# Altium schematic symbol library MMT_OtherComponents.SchLib: 39 symbols
Pins are listed as number, name and electrical type; pins without a type are passive.

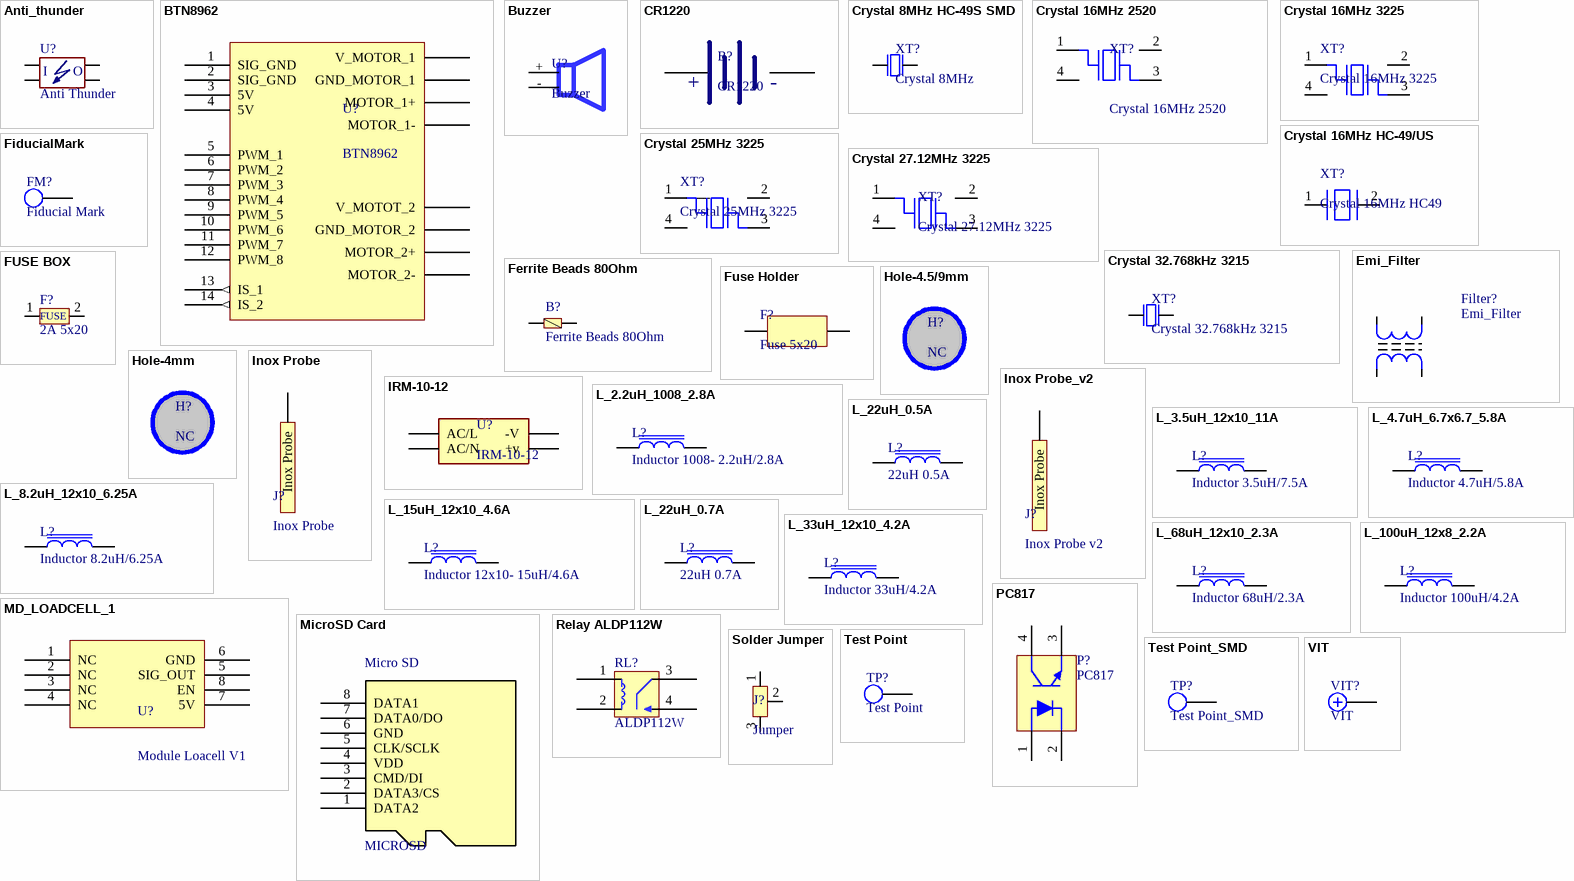
[diagram p0: symbols Anti_thunder to VIT]

## Anti_thunder
designator U?, comment Anti Thunder
Protecting the board with thunder; Manufacturer: Sullins Connector Solutions; Ex Price: 1.34; Vn Price: 4000; Voltage/Wattage: 250V/3A; Ex Supplier: https://www.digikey.com/product-detail/en/sullins-connector-solutions/PPTC112LFBN-RC/S7079-ND/810217; VN Supplier: http://tme.vn/Product.aspx?id=517#page=pro_info
footprint Anti_thunder
pins: 1, 2, 3, 4
text: I; O

## BTN8962
designator U?
Dual hafl-bridge motor driver; Manufacturer: MimosaTEK
footprint BTN8962TA_V1.2 (14 pins, straight, gold plating)
pins: 1 SIG_GND, 2 SIG_GND, 3 5V, 4 5V, 5 PWM_1, 6 PWM_2, 7 PWM_3, 8 PWM_4, 9 PWM_5, 10 PWM_6, 11 PWM_7, 12 PWM_8, 13 IS_1 (out), 14 IS_2 (out), ?1 V_MOTOR_1, ?2 GND_MOTOR_1, ?3 MOTOR_1+, ?4 MOTOR_1-, ?5 V_MOTOT_2, ?6 GND_MOTOR_2, ?7 MOTOR_2+, ?8 MOTOR_2-

## Buzzer
designator U?
DIP Buzzer 12x9mm; Manufaceturer: OEM; VN Price: 3000; VN Supplier: https://thegioiic.com/products/1209-dip-buzzer-12x9mm
footprint BUZZER D12
pins: 1 +, 2 -

## CR1220
designator B?
Coin Cell Battery Holders EZ BDWR, SMT COIN CELL HOLDER CR1220; Manufacturer: Harwin; Part Number: S8411-45R; Ex Price: 0.678; VN Price: 1700; Ex Supplier: https://www.mouser.vn/ProductDetail/Harwin/S8411-45R?qs=sGAEpiMZZMtT9MhkajLHrqC860xW%2FXMDB4Gztb%252BQWqM%3D; VN Supplier: https://thegioiic.com/products/cr1220-de-pin-smd; Package: Coin 12mm
footprint CR1220
pins: 1 VCC, 2
text: +; -

## Crystal 8MHz HC-49S SMD
designator XT?, comment Crystal 8MHz
8 MHz HC-49S SMD Crystal; Manufacturer: Citizen FineDevice; Part Number: HCM498000000ABJT; Ex Price: 0.66; VN Price: 4000; Tolerance: 30PPM; Ex Supplier: https://www.mouser.vn/ProductDetail/Citizen-FineDevice/HCM498000000ABJT?qs=sGAEpiMZZMsBj6bBr9Q9abMK2mGYOCsJj3%252BGXLAdcPnWMHmt%252BBng3w%3D%3D; VN Supplier: http://tme.vn/Product.aspx?id=1754#page=pro_info; Package: HC-49/US; Value: 8MHz
footprint CRYSTAL_HC49-US-SM (SMD Crystal HC49/US-SM package)
pins: 1 3, 2 3

## Crystal 16MHz 2520
designator XT?
Crystals 16MHz 25ppm 12pF -40C +85C; Manufacturer: ECS; Part Number: ECS-160-12-36-AGN-TR; Ex Price: 0.55; VN Price: 10000; Package: 2.5x2mm; Ex Supplier: https://www.mouser.vn/ProductDetail/ECS/ECS-160-12-36-AGN-TR?qs=sGAEpiMZZMsBj6bBr9Q9abMK2mGYOCsJDrVgMadX0Nn6crzDq4Cd%252Bg%3D%3D; VN Supplier: http://tme.vn/Product.aspx?id=1114
footprint CRYSTAL-2.5x2-4
pins: 1, 2, 3, 4

## Crystal 16MHz 3225
designator XT?
Crystals 16MHz 12pF 20ppm ESR 70 -40C +125C; Manufacturer: ABRACON; Part Number: ABM8AIG-16.000MHz-12-2Z-T; Ex Price: 0.667; VN Price: 7000; Ex Supplier: https://www.mouser.vn/ProductDetail/ABRACON/ABM8AIG-16000MHz-12-2Z-T?qs=sGAEpiMZZMsBj6bBr9Q9abMK2mGYOCsJj5I193fdriQ%252BZgMrBBZTDg%3D%3D; VN Supplier: http://tme.vn/Product.aspx?id=1875#page=pro_info; Package: 32x25(mm); Value: 16MHz; Tolerance: 20PPM
footprint Crystal-3.2x2.5 (DSX321G)
pins: 1, 2, 3, 4

## Crystal 16MHz HC-49/US
designator XT?, comment Crystal 16MHz HC49
Crystals 16.000MHz 30ppm -20C +70C; Manufacturer: ABRACON; Part Number: ABLS-16.000MHZ-B4-T; Ex Price: 0.28; VN Price: 1400; Ex Supplier: https://www.mouser.vn/ProductDetail/ABRACON/ABLS-16000MHZ-B4-T?qs=sGAEpiMZZMsBj6bBr9Q9afotFnKtdEDA7ZIrgzeEC8Q%3D; VN Supplier: https://thegioiic.com/products/thach-anh-16mhz-crystal-hc49-smd; Package: HC-49/US; Value: 16MHz; Tolerance: 30PPM
footprint HC-49/US
pins: 1, 2

## Crystal 25MHz 3225
designator XT?
Crystals 25MHz 10pF 30ppm -10C +60C; Manufacturer: ABRACON; Part Number: ABM8G-25.000MHZ-4Y-T3; Ex Price: 0.54; VN Price: 2900; Ex Supplier: https://www.mouser.vn/ProductDetail/ABRACON/ABM8G-25000MHZ-4Y-T3?qs=sGAEpiMZZMsBj6bBr9Q9aX7UzXNQttwpdjHAq7%2FeiO4%3D; VN Supplier: https://thegioiic.com/products/thach-anh-25mhz-3225-4pin-crystal; Package: 32x25(mm); Value: 25MHz; Tolerance: 30PPM
footprint Crystal-3.2x2.5 (DSX321G)
pins: 1, 2, 3, 4

## Crystal 27.12MHz 3225
designator XT?
Crystals 27.12MHz 12pF 30ppm -10C +60C; Manufacturer: ECS; Part Number: ECS-271.2-12-33-AGN-TR; Ex Price: 0.54; VN Price: 3000; Tolerance: 25PPM; Ex Supplier: https://www.mouser.vn/ProductDetail/ECS/ECS-2712-12-33-AGN-TR?qs=wd5RIQLrsJh1Qfl3vC1ajw%3D%3D; VN Supplier: https://www.thegioiic.com/products/thach-anh-27-12mhz-3225-4pin-crystal; Package: 32x25(mm); Value: 27.12MHz
footprint Crystal-3.2x2.5 (DSX321G)
pins: 1, 2, 3, 4

## Crystal 32.768kHz 3215
designator XT?
Crystals 32.768KHz 12.5pf 3.2 x 1.5 x 0.9mm; Manufacturer: ABRACON; Part Number: ABS07-32.768KHZ-T; Ex Price: 0.76; VN Price: 4500; Tolerance: 20PPM; Ex Supplier: https://www.mouser.vn/ProductDetail/ABRACON/ABS07-32768KHZ-T?qs=sGAEpiMZZMsBj6bBr9Q9aU6frLWTv08pCKgvHujfbIs%3D; VN Supplier: https://thegioiic.com/products/thach-anh-32-768khz-c3215; Package: 3215(mm); Value: 32.768kHz
footprint CRYSTAL-3.2x1.5 (3.2mm * 1.5mm)
pins: 1 3, 2 3

## Emi_Filter
designator Filter?
VN Price: 5500; Value: 10mH; VN Supplier: https://banlinhkien.vn/goods-3415-cuon-loc-10mh-uu9-8.html
footprint EMI_filter
pins: 1, 2, 3, 4

## Ferrite Beads 80Ohm
designator B?
Ferrite Beads 80 Ohms 1000mA -55C +125C; Manufacturer: ABRACON; Part Number: ACML-0805-800-T; Ex Price: 0.015; VN Price: 450; Tolerance: 25%; Ex Supplier: https://www.mouser.vn/ProductDetail/ABRACON/ACML-0805-800-T?qs=qw2lGDycG5sX5sSNlJgnVQ%3D%3D; VN Supplier: http://tme.vn/Product.aspx?id=1708#page=pro_info; Package: 0805 (2012mm); Value: 80 Ohm; Voltage/Wattage: 1000mA
footprint FERRITE BEAD
pins: 1, 2

## FiducialMark
designator FM?, comment Fiducial Mark
Part Number: NC; Value: NC; Package: NC
footprint Fiducial mark
pins: 1

## FUSE BOX
designator F?, comment 2A 5x20
footprint CYLINDER_FUSE
footprint FUSE_HOLDER
footprint FUSE BOX
footprint NTC10D (Footprint not found)
pins: 1, 2
text: FUSE

## Fuse Holder
designator F?, comment Fuse 5x20
Fuse Clips Panel Mount; Manufacturer: Bussmann / Eaton; Part Number: BK/HTC-210M; Ex Price: 1.12; VN Price: 400; Ex Supplier: https://www.mouser.vn/ProductDetail/Bussmann-Eaton/BK-HTC-210M?qs=sGAEpiMZZMuxTAA0eeO5GyZDnZcVJh2jmwDKjwFmrv4%3D; VN Supplier: https://thegioiic.com/products/5x20-dip-de-cau-chi; Package: 5 mm x 20 mm
footprint FUSE_HOLDER
pins: 1, 2

## Hole-4.5/9mm
designator H?, comment NC
Hole 4.5/9mm
footprint Hole-4.5/9mm
pins: 1 hidden

## Hole-4mm
designator H?, comment NC
Hole 4mm
footprint Hole-4mm
pins: 1 hidden

## Inox Probe
designator J?
NC; Value: NC
footprint Inox Probe
pins: 0 Inox Probe

## Inox Probe_v2
designator J?, comment Inox Probe v2
NC; Value: NC
footprint Inox Probe v2
pins: 0 Inox Probe

## IRM-10-12
designator U?
AC/DC Power Modules 12V 0.85A 10.2W 85-264Vin Encap PS; Manufacturer: MEAN WELL; Ex Price: 7.5; VN Price: 195000; Voltage/Wattage: 12V/0.85A; Part Number: IRM-10-12; Ex Supplier: https://www.mouser.vn/ProductDetail/MEAN-WELL/IRM-10-12?qs=%2Fha2pyFaduinEh%2FsL8Dm3dC%2F6llusOicbYSZP6avck9m518FKrUQ9Q%3D%3D; VN Supplier: https://banlinhkien.vn/goods-10595-nguon-ac-dc-12v0-85a-irm-10-12.html
footprint IRM-10-x
pins: 1 AC/L, 2 AC/N, 3 +v, 4 -V

## L_2.2uH_1008_2.8A
designator L?, comment Inductor 1008- 2.2uH/2.8A
Fixed Inductors 1008 2.2uH 20% 2.8A RDC=0.084ohms; Manufacturer: Murata Electronics; Part Number: DFE252012PD-2R2M=P2; Ex Price: 0.73; Value: Inductor 1008- 2.2uH/2.8A; Ex Supplier: https://www.mouser.vn/ProductDetail/Murata-Electronics/DFE252012PD-2R2M%3dP2?qs=sGAEpiMZZMsg%252By3WlYCkU5FHiQf6D01SaYOe7iY5uFo%3D; Package: 1008; Voltage/Wattage: 2.8A; Tolerance: 20%
footprint INDUCTOR-1008
pins: 1, 2

## L_3.5uH_12x10_11A
designator L?, comment Inductor 3.5uH/7.5A
Fixed Inductors WE-PD 1210 3.5uH 11A .009Ohm; Manufacturer: Wurth Electronics; Part Number: 7447709680; Value: Inductor 12x10- 3.5uH/11A; VN Price: 2500; Voltage/Wattage: 2.3; Tolerance: 20%; Ex Price: 2.41; Ex Supplier: https://www.mouser.vn/ProductDetail/Wurth-Elektronik/7447709003?qs=sGAEpiMZZMsg%252By3WlYCkU2ZZAkgqljbF016AQIzgltY%3D; VN Supplier: https://thegioiic.com/products/cuon-cam-3-5uh-rh127-smd-12x12x7; Package: 12x10mm
footprint INDUC_12x10
pins: 1, 2

## L_4.7uH_6.7x6.7_5.8A
designator L?, comment Inductor 4.7uH/5.8A
Fixed Inductors 4.7uH 20% 0.027ohms 5.8A AEC-Q200; Manufacturer: TAKAMISAWA; Part Number: VLS6045EX-4R7M-H; VN Price: 6000; Ex Price: 0.63; Value: Inductor 4.7uH/5.8A; Ex Supplier: https://www.mouser.vn/ProductDetail/TDK/VLS6045EX-4R7M-H?qs=sGAEpiMZZMsg%252By3WlYCkU1c2wN3ttFq7%252Bre%252B3Va84qM%3D; VN Supplier: http://tme.vn/Product.aspx?id=1326#page=pro_info; Package: 6.0x6.3x4.5; Tolerance: 20%
footprint INDUCTOR 6045
pins: 1, 2

## L_8.2uH_12x10_6.25A
designator L?, comment Inductor 8.2uH/6.25A
Fixed Inductors WE-PD 1260 8.2uH 6.25A .02Ohm; Manufacturer: Wurth Electronics; Part Number: 744771008; VN Price: 2600; Tolerance: 20%; Ex Price: 2.12; Ex Supplier: https://www.mouser.vn/ProductDetail/Wurth-Elektronik/744771008?qs=E%2F%2FhvbtCqpMBmCD5Rj69rg%3D%3D; VN Supplier: https://www.thegioiic.com/products/cuon-cam-dan-smd-1280-8r2-8-2uh-8a; Package: 12x10mm; Voltage/Wattage: 6.25A
footprint INDUC_12x10
pins: 1, 2

## L_15uH_12x10_4.6A
designator L?, comment Inductor 12x10- 15uH/4.6A
Fixed Inductors WE-PDA 1210 15uH 20% 4.6A 36mOhm; Manufacturer: Wurth Electronics; Part Number: 7847709150; VN Price: 8000; Ex Price: 2.57; Value: Inductor 12x10- 15uH/4.6A; Ex Supplier: https://www.mouser.vn/ProductDetail/Wurth-Electronics/7847709150?qs=sGAEpiMZZMsg%252By3WlYCkUy0Se8nYOmwutlwbLtW9dpI%3D; VN Supplier: http://tme.vn/Product.aspx?id=1220#page=pro_info; Package: 1210; Voltage/Wattage: 4.6A; Tolerance: 20%
footprint INDUC_12x10
pins: 1, 2

## L_22uH_0.5A
designator L?, comment 22uH 0.5A
Fixed Inductors 22uH 0.5A 3.5x3x2.1mm; Manufacturer: Wurth Elektronik; Part Number: 7447732122; VN Price: 1300; Tolerance: 20%; Ex Price: 0.98; Ex Supplier: https://www.mouser.vn/ProductDetail/Wurth-Elektronik/7447732122?qs=sGAEpiMZZMsg%252By3WlYCkU0cVvN3PZ71qptMiyWXxPPI%3D; VN Supplier: https://thegioiic.com/products/cuon-cam-22uh-cd32-smd-3-5x3-1x2-1; Package: CD32; Voltage/Wattage: 0.5A
footprint CD32
pins: 1, 2

## L_22uH_0.7A
designator L?, comment 22uH 0.7A
Fixed Inductors 22uH 0.7A 4.7x4.7x3.0mm; Manufacturer: SXN(Shun Xiang Nuo Elec); Part Number: SMRH4D28-220MT; VN Price: 1500; Tolerance: 20%; Ex Price: 0.15; Ex Supplier: https://lcsc.com/product-detail/Power-Inductors_SXN-Shun-Xiang-Nuo-Elec-SMRH4D28-220MT_C261488.html; VN Supplier: https://www.thegioiic.com/products/cuon-cam-dan-smd-4d28-4730-220-22uh-700ma; Package: 4D28; Voltage/Wattage: 0.7A
footprint 4D28
pins: 1, 2

## L_33uH_12x10_4.2A
designator L?, comment Inductor 33uH/4.2A
Fixed Inductors WE-PD 1210 33uH 4.2A .045Ohm; Manufacturer: Wurth Electronics; Part Number: 7447709330; Value: Inductor 12x10- 33uH/4.2A; VN Price: 8000; Tolerance: 20%; Ex Price: 1.94; Ex Supplier: https://www.mouser.vn/ProductDetail/Wurth-Elektronik/7447709330?qs=sGAEpiMZZMsg%252By3WlYCkU2ZZAkgqljbFjVdM463dpQk%3D; VN Supplier: http://tme.vn/Product.aspx?id=1585#page=pro_info; Package: 1210; Voltage/Wattage: 4.2A
footprint INDUC_12x10
pins: 1, 2

## L_68uH_12x10_2.3A
designator L?, comment Inductor 68uH/2.3A
Fixed Inductors WE-PD 1210 68uH 2.3A .045Ohm; Manufacturer: Wurth Electronics; Part Number: 7447709680; Value: Inductor 12x12- 68uH/2.3A; VN Price: 2500; Voltage/Wattage: 2.3; Tolerance: 20%; Ex Price: 2.41; Ex Supplier: https://www.mouser.vn/ProductDetail/Wurth-Elektronik/7447709680?qs=sGAEpiMZZMsg%252By3WlYCkU2ZZAkgqljbF7HDlVtfWwHQ%3D; VN Supplier: https://thegioiic.com/products/cuon-cam-68uh-rh127-smd-12x12x7; Package: 12x12mm
footprint INDUC_12x10
pins: 1, 2

## L_100uH_12x8_2.2A
designator L?, comment Inductor 100uH/4.2A
Fixed Inductors WE-PD 1280 100uH 2.2A .22Ohm; Manufacturer: Wurth Electronics; Part Number: 74477020; VN Price: 9000; Tolerance: 20%; Ex Price: 2.25; Ex Supplier: https://www.mouser.vn/ProductDetail/Wurth-Elektronik/74477020?qs=sGAEpiMZZMsg%252By3WlYCkU2ZZAkgqljbFVEv9eUZtbJ4%3D; VN Supplier: http://tme.vn/Product.aspx?id=1060; Voltage/Wattage: 2.2A
footprint INDUC_12x10
pins: 1, 2

## MD_LOADCELL_1
designator U?, comment Module Loacell V1
Manufacturer: MimosaTEK
footprint Module Loadcell
pins: 1 NC, 2 NC, 3 NC, 4 NC, 5 SIG_OUT, 6 GND, 7 5V, 8 EN

## MicroSD Card
designator Micro SD, comment MICROSD
MicroSD Card_Open-lock; Manufacturer: SOFNG; Part Number: TF-002-H18; Ex Price: 0.097864; VN Price: 3500; Ex Supplier: https://lcsc.com/product-detail/Card-Sockets-Connectors_SOFNG-TF-002-H18_C125814.html; VN Supplier: https://thegioiic.com/products/microsd-socket-tf-card-8pin
footprint MICROSD SOCKET- Open-lock
pins: 1 DATA2, 2 DATA3/CS, 3 CMD/DI, 4 VDD, 5 CLK/SCLK, 6 GND, 7 DATA0/DO, 8 DATA1

## PC817
designator P?
Transistor Output Optocouplers Photocoupler; Manufacturer: Sharp Microelectronics; Part Number: PC817X2NIP1B; Ex Price: 0.52; VN Price: 3000; Ex Supplier: https://www.mouser.vn/ProductDetail/Sharp-Microelectronics/PC817X2NIP1B?qs=sGAEpiMZZMteimceiIVCBwOhTfXkD2DSUq8bvIKRr4AQObz6W7I9Hw%3D%3D; VN Supplier: http://tme.vn/Product.aspx?id=1010#page=pro_info
footprint PC817_SMD
pins: 1, 2, 3, 4

## Relay ALDP112W
designator RL?, comment ALDP112W
General Purpose Relays LD-P Relay; Manufacturer: Panasonic Industrial Devices; Ex Price: 1.9; Voltage/Wattage: 12V/5A; Ex Supplier: https://www.mouser.vn/ProductDetail/Panasonic-Industrial-Devices/ALDP112W?qs=%2Fha2pyFadug55XVasxevY9%2FhLWPWtAQZE7VLtzHKyHg%3D; Part Number: ALDP112W; VN Supplier: banlinhkien.vn
footprint ALDP112W
pins: 1 C1, 2 C2, 3 COM, 4 NO

## Solder Jumper
designator J?, comment Jumper
Solder Jumper - NC
footprint SOLDER JUMPER
pins: 1, 2, 3

## Test Point
designator TP?
Test Point - NC; Part Number: NC; Package: NC; Value: NC
footprint TESTPOINT
pins: 1

## Test Point_SMD
designator TP?
Test Point - NC; Part Number: NC; Package: NC; Value: NC
footprint TESTPOINT SMD PAD
footprint TESTPOINT SMD PAD_BIG
footprint TESTPOINT SMD PAD_BIG - long
pins: 1

## VIT
designator VIT?
VIT - NC; Part Number: NC; Package: NC; Value: NC
footprint VIT
pins: 1